# EAGLE library part LED_RGB (library @Club_passif)
LED RGB ASMT-YTB2-0BB02 Package : PLCC6
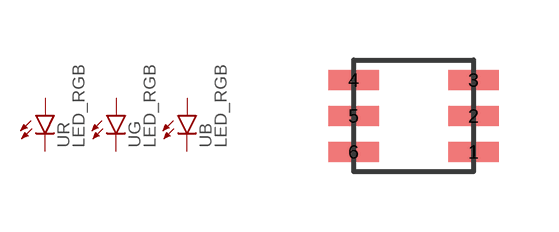
[diagram p0: symbol with the pads of PLCC6; footprint PLCC6]

Designator prefix -; gates G=LED_ R=LED_ B=LED_

## LED_RGB  [PLCC6]
1  B:C  pas
2  G:C  pas
3  R:C  pas
4  R:A  pas
5  G:A  pas
6  B:A  pas

## Footprint PLCC6 (pad centres in mm)
smd 1.27 x 0.5: 1 1.5,-0.9; 2 1.5,0; 3 1.5,0.9; 4 -1.5,0.9; 5 -1.5,0; 6 -1.5,-0.9